# Altium integrated library Actel ProASIC3.IntLib: 465 symbols (part 68 of 68)
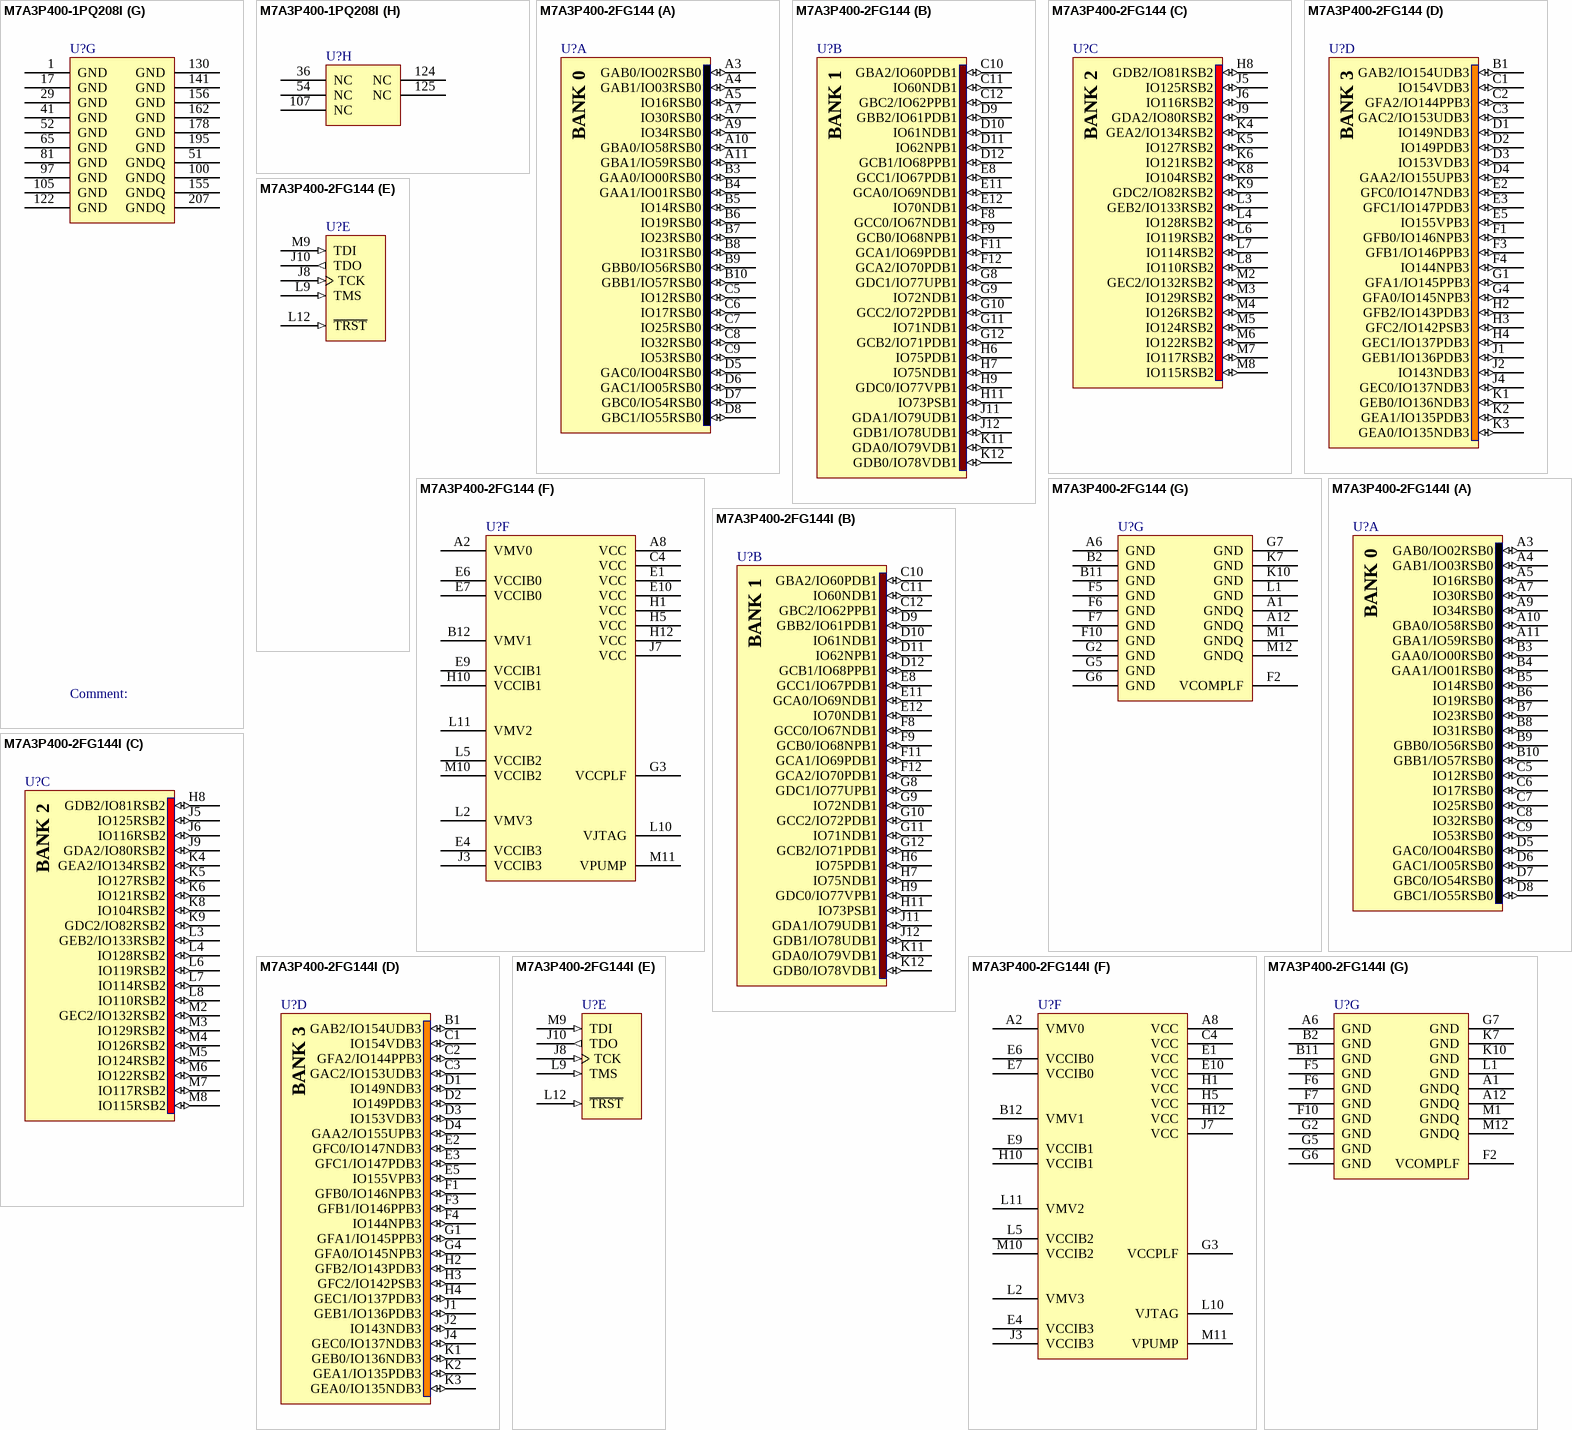
[diagram p457: symbols M7A3P400-1PQ208I to M7A3P400-2FG144I]

## M7A3P400-1PQ208I
designator U?
M7-Ready ProASIC3 Flash Family FPGA, 151 User IOs, 400K System Gates, 54 Kbits RAM, 1 Kbit Flash ROM, 1 PLL, 208-Pin PQFP, Industrial Grade; DatasheetVersion: v1.1, Feb-2009; PackageVersion: ver11.2, Nov-2009; PackageReference: PQ208; PackageDescription: 208-Pin Plastic Quad Flat Pack (PQ208); Code_JEDEC: MS-029-FA-1; ComponentLink1Description: Manufacturer URL; ComponentLink1URL: http://www.actel.com/; ComponentLink2Description: ProASIC3 Datasheet; ComponentLink2URL: http://www.actel.com/documents/PA3_DS.pdf; ComponentLink3Description: Package Mechanical Drawings; ComponentLink3URL: http://www.actel.com/documents/PckgMechDrwngs.pdf; ComponentLink4Description: ProASIC3 Documents; ComponentLink4URL: http://www.actel.com/products/pa3/docs.aspx
footprint PQ208_N (Shrink QFP, 208-Leads, Body 28x28mm, Pitch 0.5mm, IPC Medium Density)
footprint PQ208_L (Shrink QFP, 208-Leads, Body 28x28mm, Pitch 0.5mm, IPC High Density)
footprint PQ208_M (Shrink QFP, 208-Leads, Body 28x28mm, Pitch 0.5mm, IPC Low Density)
part A pins: 158 GBA1/IO59RSB0 (io), 159 GBA0/IO58RSB0 (io), 160 GBB1/IO57RSB0 (io), 161 GBB0/IO56RSB0 (io), 163 GBC1/IO55RSB0 (io), 164 GBC0/IO54RSB0 (io), 165 IO52RSB0 (io), 166 IO49RSB0 (io), 167 IO46RSB0 (io), 168 IO43RSB0 (io), 169 IO40RSB0 (io), 172 IO36RSB0 (io), 173 IO35RSB0 (io), 174 IO34RSB0 (io), 175 IO33RSB0 (io), 176 IO32RSB0 (io), 177 IO31RSB0 (io), 179 IO29RSB0 (io), 180 IO28RSB0 (io), 181 IO27RSB0 (io), 182 IO26RSB0 (io), 183 IO25RSB0 (io), 184 IO24RSB0 (io), 185 IO23RSB0 (io), 188 IO21RSB0 (io), 189 IO20RSB0 (io), 190 IO19RSB0 (io), 191 IO18RSB0 (io), 192 IO17RSB0 (io), 193 IO16RSB0 (io), 194 IO15RSB0 (io), 196 IO13RSB0 (io), 197 IO11RSB0 (io), 198 IO09RSB0 (io), 199 IO07RSB0 (io), 201 GAC1/IO05RSB0 (io), 202 GAC0/IO04RSB0 (io), 203 GAB1/IO03RSB0 (io), 204 GAB0/IO02RSB0 (io), 205 GAA1/IO01RSB0 (io), 206 GAA0/IO00RSB0 (io)
part B pins: 111 GDA0/IO79VDB1 (io), 112 GDA1/IO79UDB1 (io), 113 GDB0/IO78VDB1 (io), 114 GDB1/IO78UDB1 (io), 115 GDC0/IO77VDB1 (io), 116 GDC1/IO77UDB1 (io), 117 IO76VDB1 (io), 118 IO76UDB1 (io), 119 IO75NDB1 (io), 120 IO75PDB1 (io), 121 IO74RSB1 (io), 127 IO72NDB1 (io), 128 GCC2/IO72PDB1 (io), 129 GCB2/IO71PSB1 (io), 131 GCA2/IO70PSB1 (io), 132 GCA1/IO69PDB1 (io), 133 GCA0/IO69NDB1 (io), 134 GCB0/IO68NDB1 (io), 135 GCB1/IO68PDB1 (io), 136 GCC0/IO67NDB1 (io), 137 GCC1/IO67PDB1 (io), 138 IO66NDB1 (io), 139 IO66PDB1 (io), 143 IO65RSB1 (io), 144 IO64NDB1 (io), 145 IO64PDB1 (io), 146 IO63NDB1 (io), 147 IO63PDB1 (io), 148 IO62NDB1 (io), 149 GBC2/IO62PDB1 (io), 150 IO61NDB1 (io), 151 GBB2/IO61PDB1 (io), 152 IO60NDB1 (io), 153 GBA2/IO60PDB1 (io)
part C pins: 55 GEA2/IO134RSB2 (io), 56 GEB2/IO133RSB2 (io), 57 GEC2/IO132RSB2 (io), 58 IO131RSB2 (io), 59 IO130RSB2 (io), 60 IO129RSB2 (io), 61 IO128RSB2 (io), 63 IO125RSB2 (io), 64 IO123RSB2 (io), 66 IO121RSB2 (io), 67 IO119RSB2 (io), 68 IO117RSB2 (io), 69 IO115RSB2 (io), 70 IO113RSB2 (io), 73 IO112RSB2 (io), 74 IO111RSB2 (io), 75 IO110RSB2 (io), 76 IO109RSB2 (io), 77 IO108RSB2 (io), 78 IO107RSB2 (io), 79 IO106RSB2 (io), 80 IO104RSB2 (io), 82 IO102RSB2 (io), 83 IO101RSB2 (io), 84 IO100RSB2 (io), 85 IO99RSB2 (io), 86 IO98RSB2 (io), 87 IO97RSB2 (io), 90 IO94RSB2 (io), 91 IO92RSB2 (io), 92 IO90RSB2 (io), 93 IO88RSB2 (io), 94 IO86RSB2 (io), 95 IO84RSB2 (io), 96 GDC2/IO82RSB2 (io), 98 GDB2/IO81RSB2 (io), 99 GDA2/IO80RSB2 (io)
part D pins: 2 GAA2/IO155UDB3 (io), 3 IO155VDB3 (io), 4 GAB2/IO154UDB3 (io), 5 IO154VDB3 (io), 6 GAC2/IO153UDB3 (io), 7 IO153VDB3 (io), 8 IO152UDB3 (io), 9 IO152VDB3 (io), 10 IO151UDB3 (io), 11 IO151VDB3 (io), 12 IO150PDB3 (io), 13 IO150NDB3 (io), 14 IO149PDB3 (io), 15 IO149NDB3 (io), 19 IO148PDB3 (io), 20 IO148NDB3 (io), 21 GFC1/IO147PDB3 (io), 22 GFC0/IO147NDB3 (io), 23 GFB1/IO146PDB3 (io), 24 GFB0/IO146NDB3 (io), 26 GFA0/IO145NPB3 (io), 28 GFA1/IO145PPB3 (io), 30 GFA2/IO144PDB3 (io), 31 IO144NDB3 (io), 32 GFB2/IO143PDB3 (io), 33 IO143NDB3 (io), 34 GFC2/IO142PDB3 (io), 35 IO142NDB3 (io), 37 IO141PSB3 (io), 38 IO140PDB3 (io), 39 IO140NDB3 (io), 42 IO138PDB3 (io), 43 IO138NDB3 (io), 44 GEC1/IO137PDB3 (io), 45 GEC0/IO137NDB3 (io), 46 GEB1/IO136PDB3 (io), 47 GEB0/IO136NDB3 (io), 48 GEA1/IO135PDB3 (io), 49 GEA0/IO135NDB3 (io)
part E pins: 101 TCK (in), 102 TDI (in), 103 TMS (in), 108 TDO (out), 109 ~{TRST} (in)
part F pins: 16 VCC (power), 18 VCCIB3 (power), 25 VCOMPLF (power), 27 VCCPLF (power), 40 VCCIB3 (power), 50 VMV3 (power), 53 VMV2 (power), 62 VCCIB2 (power), 71 VCC (power), 72 VCCIB2 (power), 88 VCC (power), 89 VCCIB2 (power), 104 VMV2 (power), 106 VPUMP (power), 110 VJTAG (power), 123 VCCIB1 (power), 126 VCC (power), 140 VCCIB1 (power), 142 VCC (power), 154 VMV1 (power), 157 VMV0 (power), 170 VCCIB0 (power), 171 VCC (power), 186 VCCIB0 (power), 187 VCC (power), 200 VCCIB0 (power), 208 VMV0 (power)
part G pins: 1 GND (power), 17 GND (power), 29 GND (power), 41 GND (power), 51 GNDQ (power), 52 GND (power), 65 GND (power), 81 GND (power), 97 GND (power), 100 GNDQ (power), 105 GND (power), 122 GND (power), 130 GND (power), 141 GND (power), 155 GNDQ (power), 156 GND (power), 162 GND (power), 178 GND (power), 195 GND (power), 207 GNDQ (power)
part H pins: 36 NC, 54 NC, 107 NC, 124 NC, 125 NC
part A text: BANK 0
part B text: BANK 1
part C text: BANK 2
part D text: BANK 3

## M7A3P400-2FG144
designator U?
M7-Ready ProASIC3 Flash Family FPGA, 97 User IOs, 400K System Gates, 54 Kbits RAM, 1 Kbit Flash ROM, 1 PLL, 144-Ball FBGA, Commercial Grade; DatasheetVersion: v1.1, Feb-2009; PackageVersion: rev39, Aug-2010; PackageReference: FG144; PackageDescription: 144-Ball Fine Pitch Plastic Ball Grid Array (FG144); Code_JEDEC: MO-192-DAD-1; ComponentLink1Description: Manufacturer URL; ComponentLink1URL: http://www.actel.com/; ComponentLink2Description: ProASIC3 Datasheet; ComponentLink2URL: http://www.actel.com/documents/PA3_DS.pdf; ComponentLink3Description: Package Mechanical Drawings; ComponentLink3URL: http://www.actel.com/documents/PckgMechDrwngs.pdf; ComponentLink4Description: ProASIC3 Documents; ComponentLink4URL: http://www.actel.com/products/pa3/docs.aspx
footprint FG144 (BGA, 144-Leads, Body 13x13mm, Pitch 1mm)
part A pins: A3 GAB0/IO02RSB0 (io), A4 GAB1/IO03RSB0 (io), A5 IO16RSB0 (io), A7 IO30RSB0 (io), A9 IO34RSB0 (io), A10 GBA0/IO58RSB0 (io), A11 GBA1/IO59RSB0 (io), B3 GAA0/IO00RSB0 (io), B4 GAA1/IO01RSB0 (io), B5 IO14RSB0 (io), B6 IO19RSB0 (io), B7 IO23RSB0 (io), B8 IO31RSB0 (io), B9 GBB0/IO56RSB0 (io), B10 GBB1/IO57RSB0 (io), C5 IO12RSB0 (io), C6 IO17RSB0 (io), C7 IO25RSB0 (io), C8 IO32RSB0 (io), C9 IO53RSB0 (io), D5 GAC0/IO04RSB0 (io), D6 GAC1/IO05RSB0 (io), D7 GBC0/IO54RSB0 (io), D8 GBC1/IO55RSB0 (io)
part B pins: C10 GBA2/IO60PDB1 (io), C11 IO60NDB1 (io), C12 GBC2/IO62PPB1 (io), D9 GBB2/IO61PDB1 (io), D10 IO61NDB1 (io), D11 IO62NPB1 (io), D12 GCB1/IO68PPB1 (io), E8 GCC1/IO67PDB1 (io), E11 GCA0/IO69NDB1 (io), E12 IO70NDB1 (io), F8 GCC0/IO67NDB1 (io), F9 GCB0/IO68NPB1 (io), F11 GCA1/IO69PDB1 (io), F12 GCA2/IO70PDB1 (io), G8 GDC1/IO77UPB1 (io), G9 IO72NDB1 (io), G10 GCC2/IO72PDB1 (io), G11 IO71NDB1 (io), G12 GCB2/IO71PDB1 (io), H6 IO75PDB1 (io), H7 IO75NDB1 (io), H9 GDC0/IO77VPB1 (io), H11 IO73PSB1 (io), J11 GDA1/IO79UDB1 (io), J12 GDB1/IO78UDB1 (io), K11 GDA0/IO79VDB1 (io), K12 GDB0/IO78VDB1 (io)
part C pins: H8 GDB2/IO81RSB2 (io), J5 IO125RSB2 (io), J6 IO116RSB2 (io), J9 GDA2/IO80RSB2 (io), K4 GEA2/IO134RSB2 (io), K5 IO127RSB2 (io), K6 IO121RSB2 (io), K8 IO104RSB2 (io), K9 GDC2/IO82RSB2 (io), L3 GEB2/IO133RSB2 (io), L4 IO128RSB2 (io), L6 IO119RSB2 (io), L7 IO114RSB2 (io), L8 IO110RSB2 (io), M2 GEC2/IO132RSB2 (io), M3 IO129RSB2 (io), M4 IO126RSB2 (io), M5 IO124RSB2 (io), M6 IO122RSB2 (io), M7 IO117RSB2 (io), M8 IO115RSB2 (io)
part D pins: B1 GAB2/IO154UDB3 (io), C1 IO154VDB3 (io), C2 GFA2/IO144PPB3 (io), C3 GAC2/IO153UDB3 (io), D1 IO149NDB3 (io), D2 IO149PDB3 (io), D3 IO153VDB3 (io), D4 GAA2/IO155UPB3 (io), E2 GFC0/IO147NDB3 (io), E3 GFC1/IO147PDB3 (io), E5 IO155VPB3 (io), F1 GFB0/IO146NPB3 (io), F3 GFB1/IO146PPB3 (io), F4 IO144NPB3 (io), G1 GFA1/IO145PPB3 (io), G4 GFA0/IO145NPB3 (io), H2 GFB2/IO143PDB3 (io), H3 GFC2/IO142PSB3 (io), H4 GEC1/IO137PDB3 (io), J1 GEB1/IO136PDB3 (io), J2 IO143NDB3 (io), J4 GEC0/IO137NDB3 (io), K1 GEB0/IO136NDB3 (io), K2 GEA1/IO135PDB3 (io), K3 GEA0/IO135NDB3 (io)
part E pins: J8 TCK (in), J10 TDO (out), L9 TMS (in), L12 ~{TRST} (in), M9 TDI (in)
part F pins: A2 VMV0 (power), A8 VCC (power), B12 VMV1 (power), C4 VCC (power), E1 VCC (power), E4 VCCIB3 (power), E6 VCCIB0 (power), E7 VCCIB0 (power), E9 VCCIB1 (power), E10 VCC (power), G3 VCCPLF (power), H1 VCC (power), H5 VCC (power), H10 VCCIB1 (power), H12 VCC (power), J3 VCCIB3 (power), J7 VCC (power), L2 VMV3 (power), L5 VCCIB2 (power), L10 VJTAG (power), L11 VMV2 (power), M10 VCCIB2 (power), M11 VPUMP (power)
part G pins: A1 GNDQ (power), A6 GND (power), A12 GNDQ (power), B2 GND (power), B11 GND (power), F2 VCOMPLF (power), F5 GND (power), F6 GND (power), F7 GND (power), F10 GND (power), G2 GND (power), G5 GND (power), G6 GND (power), G7 GND (power), K7 GND (power), K10 GND (power), L1 GND (power), M1 GNDQ (power), M12 GNDQ (power)
part A text: BANK 0
part B text: BANK 1
part C text: BANK 2
part D text: BANK 3